# Altium footprint library R-0-SC.PcbLib: 1 footprints
Each footprint in its own frame and in the unit in brackets; x right, y up, seen from the top. Pads: shape width x height; smd on the part's side, far side on the other; paste and mask are expansions set on the pad; w line width, h text height; cw(c..) or ccw(c..) is an arc to the next point about the centre after c.
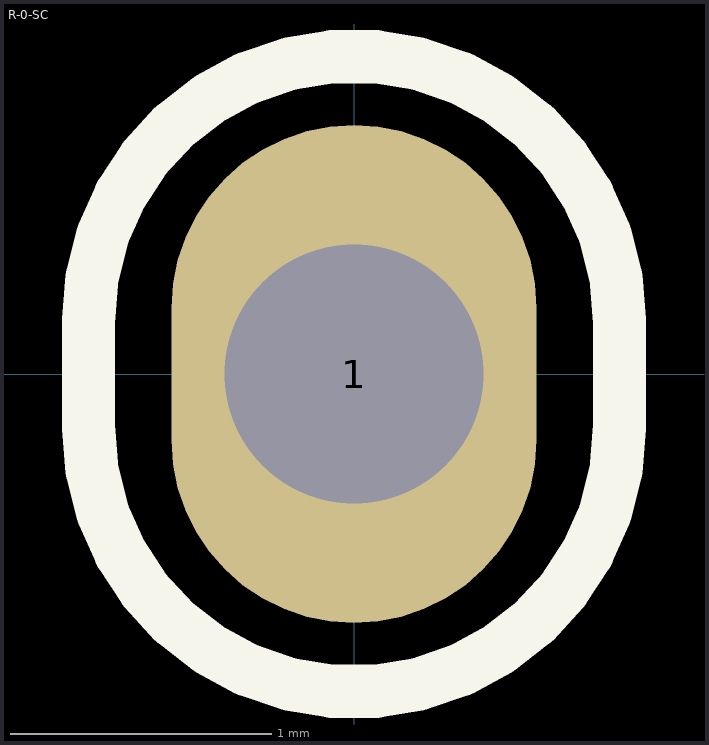
[diagram p0: the footprint, top view; thin cyan lines are the x and y axes]

## R-0-SC [mil]
pads (1):
  oval 55x75 hole 39: 1(0,0)
Top Overlay:
  lines w8: -40,-8 ccw(c0,-7.92) 40,-8 40,8 ccw(c0,7.92) -40,8 -40,-8